# Altium footprint library ESP32_CAN_V2.PcbLib: 32 footprints (part 2 of 2)
Each footprint in its own frame and in the unit in brackets; x right, y up, seen from the top. Pads: shape width x height; smd on the part's side, far side on the other; paste and mask are expansions set on the pad; w line width, h text height; cw(c..) or ccw(c..) is an arc to the next point about the centre after c.
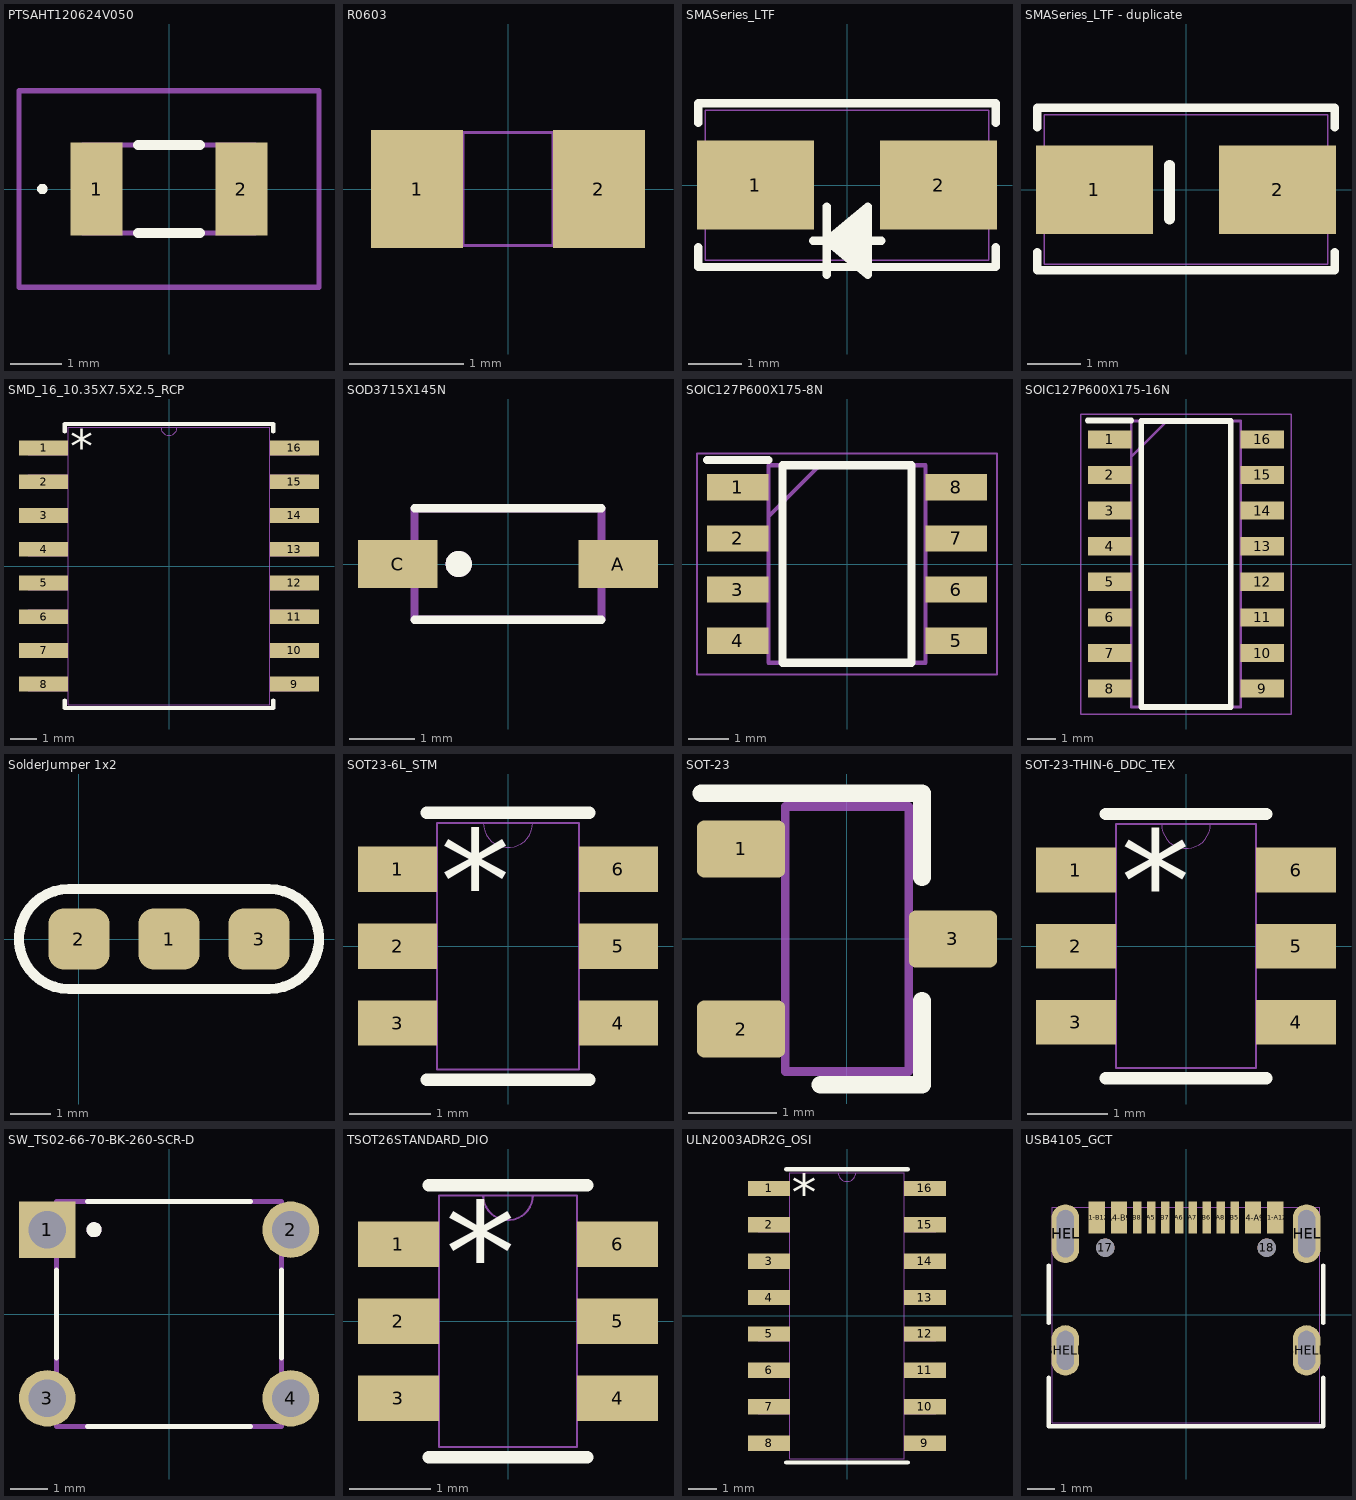
[diagram p1: the footprints below, top view; thin cyan lines are the x and y axes]

## PTSAHT120624V050 [mm]
pads (2):
  rect 1x1.8 smd: 1(-1.4,0) 2(1.4,0)
Top Overlay:
  lines w0.1: -2.5,0 cw(c-2.45,0) -2.4,0 cw(c-2.45,0) -2.5,0
  lines w0.2: -0.6,-0.85 0.6,-0.85 ; -0.6,0.85 0.6,0.85
Mechanical 15:
  lines w0.1: -1.675,-0.85 -1.675,0.85 1.675,0.85 1.675,-0.85 -1.675,-0.85
Mechanical 20:
  lines w0.1: -2.9,-1.9 -2.9,1.9 2.9,1.9 2.9,-1.9 -2.9,-1.9
3D body "PTSAHT120624V050.stp": height 1.06, standoff -0.01, extent -1.625,-0.85 1.675,0.85

## R0603 [mm]
pads (2):
  rect 0.808x1.041 smd paste+0 mask+0: 1(-0.798,0) 2(0.798,0)
Mechanical 13:
  lines w0.025: -0.902,-0.495 -0.902,0.495 ; -0.902,-0.495 -0.394,-0.495 -0.394,0.495 -0.902,0.495 ; -0.902,-0.495 0.902,-0.495 ; -0.902,-0.495 -0.902,0.495 ; -0.902,0.495 0.902,0.495 ; 0.902,-0.495 0.394,-0.495 0.394,0.495 0.902,0.495 ; 0.902,-0.495 0.902,0.495 ; 0.902,-0.495 0.902,0.495
3D body "RES_ERA3A_0603_PAN.step": height 0.56, standoff 0, extent -0.902,-0.495 0.902,0.495

## SMASeries_LTF [mil]
pads (2):
  rect 85.59x65 smd paste+0 mask+0: 1(-67.11,0) 2(67.11,0)
Top Overlay:
  lines w6: -109,-45.6 -109,-60 109,-60 109,-45.6 ; -109,45.6 -109,60 109,60 109,45.6 ; -24.84,-40.74 25.16,-40.74 ; -14.84,-65.74 -14.84,-15.74 ; 15.16,-60.74 -14.84,-40.74 ; 15.16,-55.74 -14.84,-40.74 ; 15.16,-50.74 -14.84,-40.74 ; 15.16,-45.74 -14.84,-40.74 ; 15.16,-35.74 -14.84,-40.74 ; 15.16,-30.74 -14.84,-40.74 ; 15.16,-25.74 -14.84,-40.74 ; 15.16,-20.74 -14.84,-40.74 ; -14.84,-40.74 15.16,-15.74 15.16,-65.74 -14.84,-40.74
Mechanical 13:
  lines w1: -24.84,-40 25.16,-40 ; -14.84,-65 -14.84,-15 ; 15.16,-60 -14.84,-40 ; 15.16,-55 -14.84,-40 ; 15.16,-50 -14.84,-40 ; 15.16,-45 -14.84,-40 ; 15.16,-35 -14.84,-40 ; 15.16,-30 -14.84,-40 ; 15.16,-25 -14.84,-40 ; 15.16,-20 -14.84,-40 ; -14.84,-40 15.16,-15 15.16,-65 -14.84,-40 ; -104,-55 104,-55 104,55 -104,55 -104,-55
3D body "SMASeries_LTF.step": height 92.01, standoff 0, extent -104.02,-55 104.02,55

## SMASeries_LTF - duplicate [mil]
pads (2):
  rect 85.59x65 smd paste+0 mask+0: 1(-67.11,0) 2(67.11,0)
Top Overlay:
  lines w6: -109,-45.6 -109,-59.06 109,-59.06 109,-45.6 ; -109,45.6 -109,60 109,60 109,45.6
  lines w7.87: -12.14,-21.47 -12.14,17.9
Mechanical 13:
  lines w1: -104,-54.79 -104,55 104,55 104,-54.79 -104,-54.79
3D body "SMASeries_LTF.step": height 92.01, standoff 0, extent -99.66,-55 108.37,55

## SMD_16_10.35X7.5X2.5_RCP [mm]
pads (16):
  rect 1.849x0.558 smd paste+0 mask+0: 1(-4.722,4.445) 2(-4.722,3.175) 3(-4.722,1.905) 4(-4.722,0.635) 5(-4.722,-0.635) 6(-4.722,-1.905) 7(-4.722,-3.175) 8(-4.722,-4.445) 9(4.722,-4.445) 10(4.722,-3.175) 11(4.722,-1.905) 12(4.722,-0.635) 13(4.722,0.635) 14(4.722,1.905) 15(4.722,3.175) 16(4.722,4.445)
Top Overlay:
  lines w0.152: -3.924,-5.057 -3.924,-5.347 3.924,-5.347 3.924,-5.057 ; -3.924,5.057 -3.924,5.347 3.924,5.347 3.924,5.057
  text "*" at -3.722,3.887 h1.27
Mechanical 13:
  lines w0.025: -0.305,5.22 ccw(c0,5.22) 0.305,5.22 ; -5.296,-4.699 -3.797,-4.699 -3.797,-4.191 -5.296,-4.191 -5.296,-4.699 ; -5.296,-3.429 -3.797,-3.429 -3.797,-2.921 -5.296,-2.921 -5.296,-3.429 ; -5.296,-2.159 -3.797,-2.159 -3.797,-1.651 -5.296,-1.651 -5.296,-2.159 ; -5.296,-0.889 -3.797,-0.889 -3.797,-0.381 -5.296,-0.381 -5.296,-0.889 ; -5.296,0.381 -3.797,0.381 -3.797,0.889 -5.296,0.889 -5.296,0.381 ; -5.296,1.651 -3.797,1.651 -3.797,2.159 -5.296,2.159 -5.296,1.651 ; -5.296,2.921 -3.797,2.921 -3.797,3.429 -5.296,3.429 -5.296,2.921 ; -5.296,4.191 -3.797,4.191 -3.797,4.699 -5.296,4.699 -5.296,4.191 ; -3.797,-5.22 -3.797,5.22 3.797,5.22 3.797,-5.22 -3.797,-5.22 ; 3.797,-4.699 5.296,-4.699 5.296,-4.191 3.797,-4.191 3.797,-4.699 ; 3.797,-3.429 5.296,-3.429 5.296,-2.921 3.797,-2.921 3.797,-3.429 ; 3.797,-2.159 5.296,-2.159 5.296,-1.651 3.797,-1.651 3.797,-2.159 ; 3.797,-0.889 5.296,-0.889 5.296,-0.381 3.797,-0.381 3.797,-0.889 ; 3.797,0.381 5.296,0.381 5.296,0.889 3.797,0.889 3.797,0.381 ; 3.797,1.651 5.296,1.651 5.296,2.159 3.797,2.159 3.797,1.651 ; 3.797,2.921 5.296,2.921 5.296,3.429 3.797,3.429 3.797,2.921 ; 3.797,4.191 5.296,4.191 5.296,4.699 3.797,4.699 3.797,4.191
  text "*" at -3.734,3.873 h1.27
3D body "SMD_16_1035X75X25_RCP.step": height 2.64, standoff 0, extent -5.296,-5.22 5.296,5.22

## SOD3715X145N [mm]
pads (2):
  rect 1.21x0.73 smd: A(1.68,0) C(-1.68,0)
Top Overlay:
  circle w0.2: c-0.75,0 r0.1
  lines w0.127: -1.425,-0.85 1.425,-0.85 ; -1.425,0.85 1.425,0.85
Mechanical 13:
  circle w0.2: c-0.75,0 r0.1
  lines w0.127: -1.425,-0.85 1.425,-0.85 1.425,0.85 -1.425,0.85 -1.425,-0.85
3D body "step_temp.STEP": height 1.51, standoff -0.02, extent -1.825,-0.775 1.825,0.775

## SOIC127P600X175-8N [mm]
pads (8):
  rect 1.528x0.65 smd: 1(-2.711,1.905) 2(-2.711,0.635) 3(-2.711,-0.635) 4(-2.711,-1.905) 5(2.711,-1.905) 6(2.711,-0.635) 7(2.711,0.635) 8(2.711,1.905)
Top Overlay:
  lines w0.2: -3.475,2.58 -1.948,2.58 ; -1.598,-2.452 -1.598,2.452 1.598,2.452 1.598,-2.452 -1.598,-2.452
Mechanical 15:
  lines w0.1: -1.948,1.182 -0.678,2.452 ; -1.948,-2.452 -1.948,2.452 1.948,2.452 1.948,-2.452 -1.948,-2.452
Mechanical 20:
  lines w0.05: -3.725,-2.75 -3.725,2.75 3.725,2.75 3.725,-2.75 -3.725,-2.75
3D body "TPS25921ADR.stp": height 1.63, standoff 0, extent -3.011,-2.451 3.011,2.451

## SOIC127P600X175-16N [mm]
pads (16):
  rect 1.55x0.65 smd: 1(-2.725,4.445) 2(-2.725,3.175) 3(-2.725,1.905) 4(-2.725,0.635) 5(-2.725,-0.635) 6(-2.725,-1.905) 7(-2.725,-3.175) 8(-2.725,-4.445) 9(2.725,-4.445) 10(2.725,-3.175) 11(2.725,-1.905) 12(2.725,-0.635) 13(2.725,0.635) 14(2.725,1.905) 15(2.725,3.175) 16(2.725,4.445)
Top Overlay:
  lines w0.2: -3.5,5.12 -1.95,5.12 ; -1.6,-5.1 1.6,-5.1 1.6,5.1 -1.6,5.1 -1.6,-5.1
Mechanical 15:
  lines w0.1: -1.95,3.83 -0.68,5.1 ; -1.95,-5.1 1.95,-5.1 1.95,5.1 -1.95,5.1 -1.95,-5.1
Mechanical 20:
  lines w0.05: -3.75,-5.35 3.75,-5.35 3.75,5.35 -3.75,5.35 -3.75,-5.35
3D body "74HC595D.stp": height 1.56, standoff 0, extent -3,-5.1 3,5.1

## SolderJumper 1x2 [mil]
pads (3):
  rrect50% 60x60 smd: 1(88.58,0) 2(0,0) 3(177.17,0)
Top Overlay:
  lines w10: -9.84,-49.21 cw(c-9.84,0) -9.84,49.21 187.01,49.21 cw(c187.01,0) 187.01,-49.21 -9.84,-49.21

## SOT23-6L_STM [mil]
pads (6):
  rect 38.5x22 smd paste+0 mask+0: 1(-53.75,37.4) 2(-53.75,0) 3(-53.75,-37.4) 4(53.75,-37.4) 5(53.75,0) 6(53.75,37.4)
Top Overlay:
  lines w6: -39.5,-65 39.5,-65 ; -39.5,65 39.5,65
  text "*" at -33.08,6.96 h50
Mechanical 13:
  lines w0: -12,60 ccw(c0,60) 12,60
  lines w1: -59,-47.4 -59,-27.4 -34.5,-27.4 -34.5,-47.4 -59,-47.4 ; -59,-10 -59,10 -34.5,10 -34.5,-10 -59,-10 ; -59,27.4 -59,47.4 -34.5,47.4 -34.5,27.4 -59,27.4 ; -34.5,-60 34.5,-60 34.5,60 -34.5,60 -34.5,-60 ; 34.5,-47.4 34.5,-27.4 59,-27.4 59,-47.4 34.5,-47.4 ; 34.5,-10 34.5,10 59,10 59,-10 34.5,-10 ; 34.5,27.4 34.5,47.4 59,47.4 59,27.4 34.5,27.4
  text "*" at -32,7 h50
3D body "SOT23-6L_STM.step": height 57.09, standoff 0, extent -59.02,-60 59.02,60

## SOT-23 [mm] "SOT23, 3-Leads, IPC Medium Density, TO-236"
height 1.1
pads (3):
  rrect25% 1x0.65 smd: 1(-1.2,1.02) 2(-1.2,-1.02) 3(1.2,0)
Top Overlay:
  lines w0.2: -1.65,1.65 0.85,1.65 0.85,0.7 ; -0.3,-1.65 0.85,-1.65 0.85,-0.7
Mechanical 13:
  lines w0.1: -0.7,-1.5 -0.7,1.5 0.7,1.5 0.7,-1.5 -0.7,-1.5
3D body "p200_SOT-23.stp": height 1.3, standoff 0, extent -1.3,-1.52 1.3,1.52

## SOT-23-THIN-6_DDC_TEX [mm]
pads (6):
  rect 0.998x0.558 smd paste+0 mask+0: 1(-1.375,0.95) 2(-1.375,0) 3(-1.375,-0.95) 4(1.375,-0.95) 5(1.375,0) 6(1.375,0.95)
Top Overlay:
  lines w0.152: -1.003,-1.651 1.003,-1.651 ; -1.003,1.651 1.003,1.651
  text "*" at -0.813,0.185 h1.27
Mechanical 13:
  lines w0: -0.305,1.524 ccw(c0,1.524) 0.305,1.524
  lines w0.025: -1.524,-1.204 -1.524,-0.696 -0.876,-0.696 -0.876,-1.204 -1.524,-1.204 ; -1.524,-0.254 -1.524,0.254 -0.876,0.254 -0.876,-0.254 -1.524,-0.254 ; -1.524,0.696 -1.524,1.204 -0.876,1.204 -0.876,0.696 -1.524,0.696 ; -0.876,-1.524 0.876,-1.524 0.876,1.524 -0.876,1.524 -0.876,-1.524 ; 0.876,-1.204 0.876,-0.696 1.524,-0.696 1.524,-1.204 0.876,-1.204 ; 0.876,-0.254 0.876,0.254 1.524,0.254 1.524,-0.254 0.876,-0.254 ; 0.876,0.696 0.876,1.204 1.524,1.204 1.524,0.696 0.876,0.696
  text "*" at -0.813,0.178 h1.27
3D body "SOT-23-THIN-6_DDC_TEX.step": height 1.09, standoff 0, extent -1.524,-1.524 1.524,1.524

## SW_TS02-66-70-BK-260-SCR-D [mm]
pads (4):
  rect 1.508x1.508 / inner round 1.508 / far side rect 1.508x1.508 hole 1 mask+0.102: 1(-3.25,2.25)
  round 1.508 hole 1 mask+0.102: 2(3.25,2.25) 3(-3.25,-2.25) 4(3.25,-2.25)
Top Overlay:
  circle w0.2: c-2,2.25 r0.1
  lines w0.127: -3,-1.176 -3,1.176 ; -2.176,-3 2.176,-3 ; -2.176,3 2.176,3 ; 3,-1.176 3,1.176
Mechanical 13:
  circle w0.2: c-2,2.25 r0.1
  lines w0.127: -3,-3 3,-3 3,3 -3,3 -3,-3
3D body "step_temp.STEP": height 7, standoff -1.65, extent -3.6,-3 3.6,3

## TSOT26STANDARD_DIO [mm]
pads (6):
  rect 0.998x0.558 smd paste+0 mask+0: 1(-1.35,0.95) 2(-1.35,0) 3(-1.35,-0.95) 4(1.35,-0.95) 5(1.35,0) 6(1.35,0.95)
Top Overlay:
  lines w0.152: -0.978,-1.676 0.978,-1.676 ; -0.978,1.676 0.978,1.676
  text "*" at -0.775,0.215 h1.27
Mechanical 13:
  lines w0.025: -0.305,1.549 ccw(c0,1.549) 0.305,1.549 ; -1.499,-1.204 -0.851,-1.204 -0.851,-0.696 -1.499,-0.696 -1.499,-1.204 ; -1.499,-0.254 -0.851,-0.254 -0.851,0.254 -1.499,0.254 -1.499,-0.254 ; -1.499,0.696 -0.851,0.696 -0.851,1.204 -1.499,1.204 -1.499,0.696 ; -0.851,-1.549 -0.851,1.549 0.851,1.549 0.851,-1.549 -0.851,-1.549 ; 0.851,-1.204 1.499,-1.204 1.499,-0.696 0.851,-0.696 0.851,-1.204 ; 0.851,-0.254 1.499,-0.254 1.499,0.254 0.851,0.254 0.851,-0.254 ; 0.851,0.696 1.499,0.696 1.499,1.204 0.851,1.204 0.851,0.696
  text "*" at -0.787,0.203 h1.27
3D body "TSOT26STANDARD_DIO.step": height 0.99, standoff 0, extent -1.499,-1.549 1.499,1.549

## ULN2003ADR2G_OSI [mm]
pads (16):
  rect 1.455x0.533 smd paste+0 mask+0: 1(-2.721,4.445) 2(-2.721,3.175) 3(-2.721,1.905) 4(-2.721,0.635) 5(-2.721,-0.635) 6(-2.721,-1.905) 7(-2.721,-3.175) 8(-2.721,-4.445) 9(2.721,-4.445) 10(2.721,-3.175) 11(2.721,-1.905) 12(2.721,-0.635) 13(2.721,0.635) 14(2.721,1.905) 15(2.721,3.175) 16(2.721,4.445)
Top Overlay:
  lines w0.152: -2.121,-5.118 2.121,-5.118 ; -2.121,5.118 2.121,5.118
  text "*" at -1.927,3.666 h1.27
Mechanical 13:
  lines w0.025: -0.305,4.991 ccw(c0,4.991) 0.305,4.991 ; -3.099,-4.686 -1.994,-4.686 -1.994,-4.204 -3.099,-4.204 -3.099,-4.686 ; -3.099,-3.416 -1.994,-3.416 -1.994,-2.934 -3.099,-2.934 -3.099,-3.416 ; -3.099,-2.146 -1.994,-2.146 -1.994,-1.664 -3.099,-1.664 -3.099,-2.146 ; -3.099,-0.876 -1.994,-0.876 -1.994,-0.394 -3.099,-0.394 -3.099,-0.876 ; -3.099,0.394 -1.994,0.394 -1.994,0.876 -3.099,0.876 -3.099,0.394 ; -3.099,1.664 -1.994,1.664 -1.994,2.146 -3.099,2.146 -3.099,1.664 ; -3.099,2.934 -1.994,2.934 -1.994,3.416 -3.099,3.416 -3.099,2.934 ; -3.099,4.204 -1.994,4.204 -1.994,4.686 -3.099,4.686 -3.099,4.204 ; -1.994,-4.991 -1.994,4.991 1.994,4.991 1.994,-4.991 -1.994,-4.991 ; 1.994,-4.686 3.099,-4.686 3.099,-4.204 1.994,-4.204 1.994,-4.686 ; 1.994,-3.416 3.099,-3.416 3.099,-2.934 1.994,-2.934 1.994,-3.416 ; 1.994,-2.146 3.099,-2.146 3.099,-1.664 1.994,-1.664 1.994,-2.146 ; 1.994,-0.876 3.099,-0.876 3.099,-0.394 1.994,-0.394 1.994,-0.876 ; 1.994,0.394 3.099,0.394 3.099,0.876 1.994,0.876 1.994,0.394 ; 1.994,1.664 3.099,1.664 3.099,2.146 1.994,2.146 1.994,1.664 ; 1.994,2.934 3.099,2.934 3.099,3.416 1.994,3.416 1.994,2.934 ; 1.994,4.204 3.099,4.204 3.099,4.686 1.994,4.686 1.994,4.204
  text "*" at -1.93,3.645 h1.27
3D body "ULN2003ADR2G_OSI.step": height 1.73, standoff 0, extent -3.099,-4.991 3.099,4.991

## USB4105_GCT [mil]
pads (18):
  round 26 / inner round 60 / far side round 26 hole 26 unplated paste-99999 mask+0: 17(-113.78,94.91) 18(113.78,94.91)
  rect 23x45 smd paste-22.5 mask-22.5: A1-B12(-125.98,137.24) A4-B9(-94.49,137.24) B1-A12(125.98,137.24) B4-A9(94.49,137.24)
  rect 12x45 smd paste+0 mask+0: A5(-49.21,137.24) A6(-9.84,137.24) A7(9.84,137.24) A8(49.21,137.24) B5(68.9,137.24) B6(29.53,137.24) B7(-29.53,137.24) B8(-68.9,137.24)
  oval 39x71 / inner oval 39x71 / far side round 60 hole 55 slot 24 at 0 deg paste-99999 mask-35.5: SHELL(-170.08,-49.97) SHELL(170.08,-49.97)
  oval 39x83 / inner oval 39x83 / far side round 60 hole 67 slot 24 at 0 deg paste-99999 mask-41.5: SHELL(-170.08,114.6) SHELL(170.08,114.6)
Top Overlay:
  lines w6: -193.5,-88.64 -193.5,-157 193.5,-157 193.5,-88.64 ; -193.5,-11.29 -193.5,69.92 ; 193.5,-11.29 193.5,69.92
Mechanical 13:
  lines w1: -188.5,-152 188.5,-152 188.5,152 -188.5,152 -188.5,-152
3D body "USB4105-GF-A--3DModel-STEP-510211.STEP": height 130.31, standoff -43.31, extent -176.97,-151.77 175,151.77